# EAGLE library part AD3308BCPZ (library booz)
bidirectional level translator 8 channels
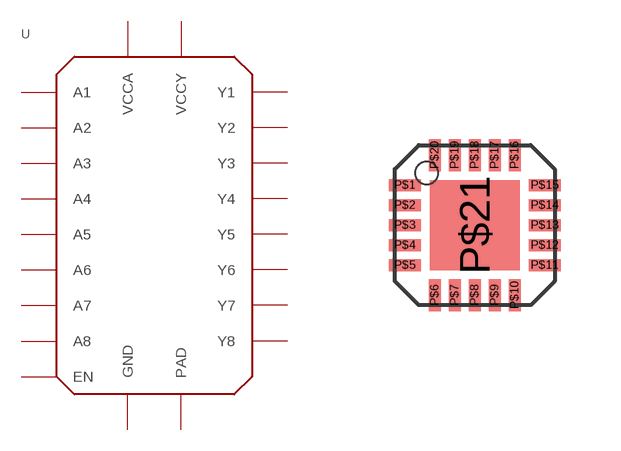
[diagram p9: symbol with the pads of LFCSP-20; footprint LFCSP-20]

Designator prefix -

## AD3308BCPZ  [LFCSP-20]
P$1  A2
P$2  A3
P$3  A4
P$4  A5
P$5  A6
P$6  A7
P$7  A8
P$8  EN
P$9  GND
P$10  Y8
P$11  Y7
P$12  Y6
P$13  Y5
P$14  Y4
P$15  Y3
P$16  Y2
P$17  Y1
P$18  VCCY
P$19  VCCA
P$20  A1
P$21  PAD

## Footprint LFCSP-20 (pad centres in mm)
smd 0.8 x 0.3: P$1 -1.75,1; P$2 -1.75,0.5; P$3 -1.75,0; P$4 -1.75,-0.5; P$5 -1.75,-1; P$11 1.75,-1; P$12 1.75,-0.5; P$13 1.75,0; P$14 1.75,0.5; P$15 1.75,1
smd 0.3 x 0.8: P$6 -1,-1.75; P$7 -0.5,-1.75; P$8 0,-1.75; P$9 0.5,-1.75; P$10 1,-1.75; P$16 1,1.75; P$17 0.5,1.75; P$18 0,1.75; P$19 -0.5,1.75; P$20 -1,1.75
smd 2.25 x 2.25: P$21 0,0